# Altium integrated library CONNECTORS AND MODULES.IntLib: 31 symbols
Pins are listed as number, name and electrical type; pins without a type are passive.

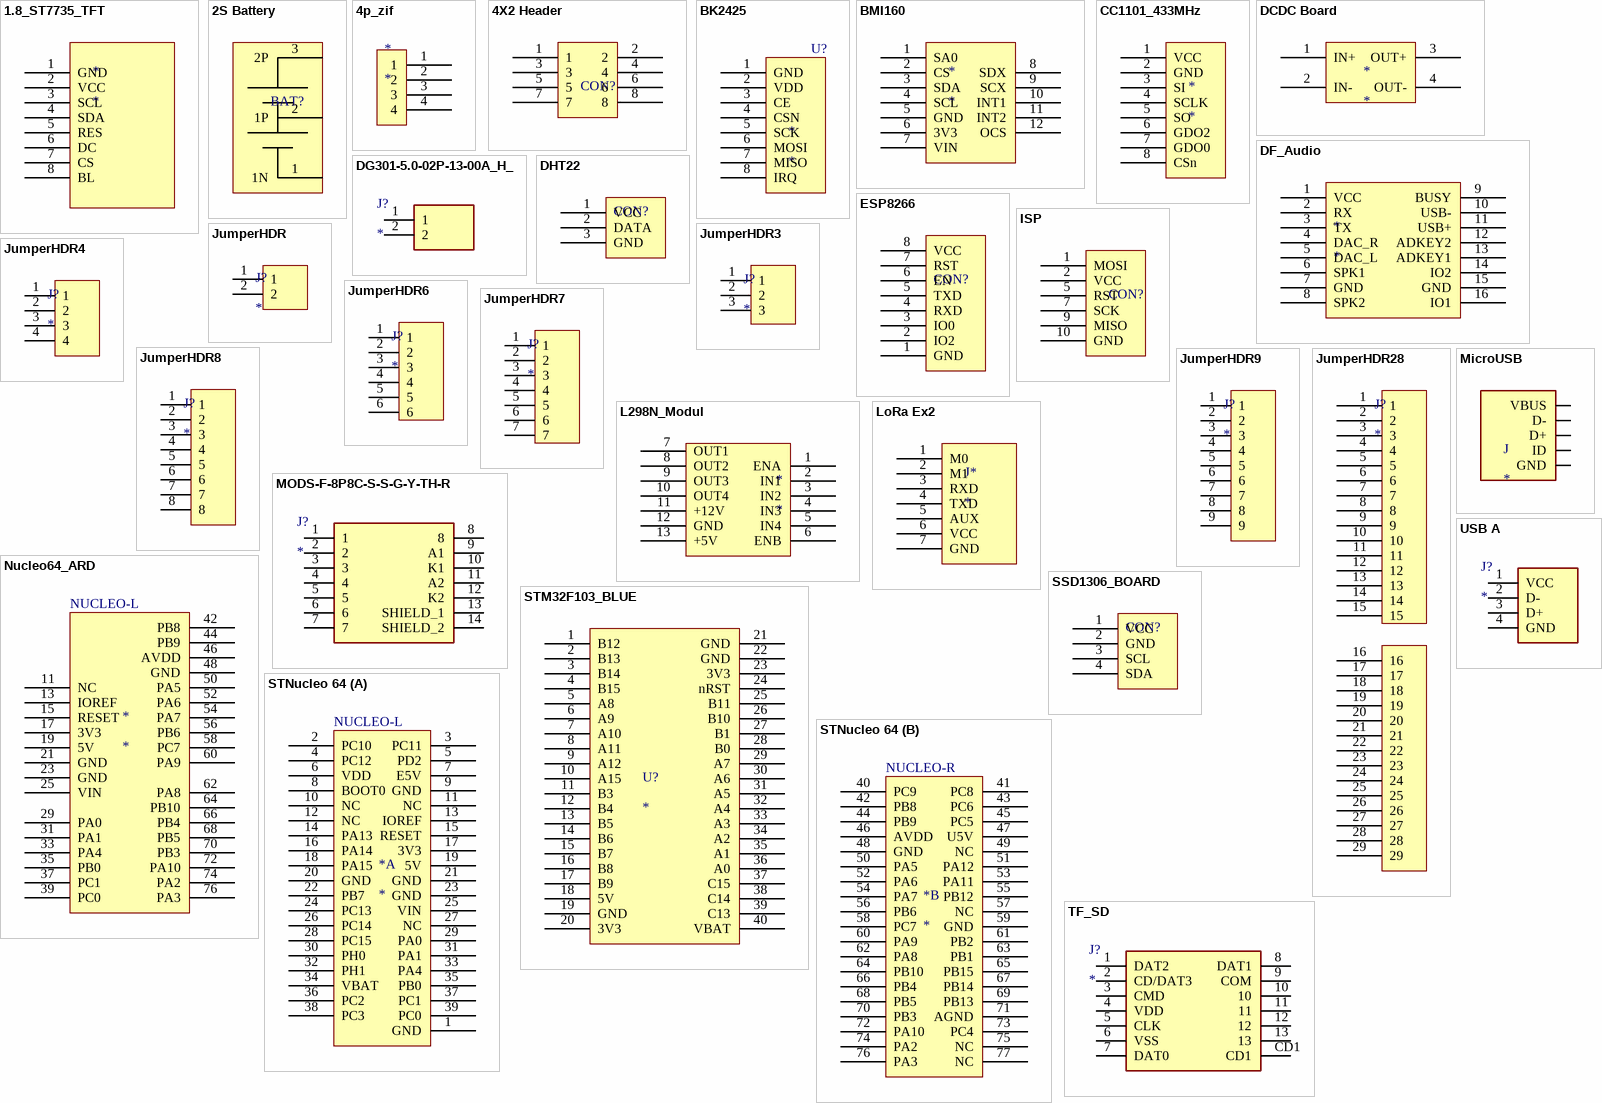
[diagram p0: symbols 1.8_ST7735_TFT to USB A]

## 1.8_ST7735_TFT
designator *
footprint 1.8_ST7735_TFT
pins: 1 GND, 2 VCC, 3 SCL, 4 SDA, 5 RES, 6 DC, 7 CS, 8 BL

## 2S Battery
designator BAT?
footprint Battery Connector
pins: 1 1N, 2 1P, 3 2P

## 4p_zif
designator *
footprint 4p_smd_zif
pins: 1, 2, 3, 4

## 4X2 Header
designator CON?
footprint 4x2
pins: 1, 2, 3, 4, 5, 6, 7, 8

## BK2425
designator *
footprint BK2425
pins: 1 GND, 2 VDD, 3 CE, 4 CSN, 5 SCK, 6 MOSI, 7 MISO, 8 IRQ
text: U?

## BMI160
designator *
footprint BMI160
pins: 1 SA0, 2 CS, 3 SDA, 4 SCL, 5 GND, 6 3V3, 7 VIN, 8 SDX, 9 SCX, 10 INT1, 11 INT2, 12 OCS

## CC1101_433MHz
designator *
footprint CC1101_433MHz
pins: 1 VCC, 2 GND, 3 SI, 4 SCLK, 5 SO, 6 GDO2, 7 GDO0, 8 CSn

## DCDC Board
designator *
footprint DC DC Board
pins: 1 IN+, 2 IN-, 3 OUT+, 4 OUT-

## DF_Audio
designator *
footprint DF_AUDIO
pins: 1 VCC, 2 RX, 3 TX, 4 DAC_R, 5 DAC_L, 6 SPK1, 7 GND, 8 SPK2, 9 BUSY, 10 USB-, 11 USB+, 12 ADKEY2, 13 ADKEY1, 14 IO2, 15 GND, 16 IO1

## DG301-5.0-02P-13-00A_H_
designator J?
Connector; Manufacturer_Name: Degson; Manufacturer_Part_Number: DG301-5.0-02P-13-00A(H); Height: 10.2mm
footprint DG3015002P1300AH
pins: 1, 2

## DHT22
designator CON?
footprint DHT22; pin to pad 3>4
pins: 1 VCC, 2 DATA, 3 GND

## ESP8266
designator CON?
footprint ESP8266
pins: 1 GND, 2 IO2, 3 IO0, 4 RXD, 5 TXD, 6 EN, 7 RST, 8 VCC

## ISP
designator CON?
footprint ISP; pin to pad 10>4
pins: 1 MOSI, 2 VCC, 5 RST, 7 SCK, 9 MISO, 10 GND

## JumperHDR
designator J?
footprint JumperHDR
pins: 1, 2

## JumperHDR3
designator J?
footprint JumperHDR3
pins: 1, 2, 3

## JumperHDR4
designator J?
footprint JumperHDR4
pins: 1, 2, 3, 4

## JumperHDR6
designator J?
footprint JumperHDR6
pins: 1, 2, 3, 4, 5, 6

## JumperHDR7
designator J?
footprint JumperHDR7
pins: 1, 2, 3, 4, 5, 6, 7

## JumperHDR8
designator J?
footprint JumperHDR8
pins: 1, 2, 3, 4, 5, 6, 7, 8

## JumperHDR9
designator J?
footprint JUMPERHDR9
pins: 1, 2, 3, 4, 5, 6, 7, 8, 9

## JumperHDR28
designator J?
footprint JUMPERHDR28
pins: 1, 2, 3, 4, 5, 6, 7, 8, 9, 10, 11, 12, 13, 14, 15, 16, 17, 18, 19, 20, 21, 22, 23, 24, 25, 26, 27, 28, 29

## L298N_Modul
designator *
footprint L298N_Modul
pins: 1 ENA, 2 IN1, 3 IN2, 4 IN3, 5 IN4, 6 ENB, 7 OUT1, 8 OUT2, 9 OUT3, 10 OUT4, 11 +12V, 12 GND, 13 +5V

## LoRa Ex2
designator J*
footprint LORA Ex2
pins: 1 M0, 2 M1, 3 RXD, 4 TXD, 5 AUX, 6 VCC, 7 GND

## MicroUSB
designator J
MP: ZX62-B-5PA; MF: Hirose; Value: *; Price: None; SnapEDA_Link: https://www.snapeda.com/parts/ZX62-B-5PA/Hirose%20Electric%20Co%20Ltd/view-part/134668/?ref=snap; Availability: Unavailable; Package: None
footprint MicroUSB
pins: 1 VBUS (power), 2 D-, 3 D+, 4 ID, 5 GND (power)

## MODS-F-8P8C-S-S-G-Y-TH-R
designator J?
Connector; Manufacturer_Name: SAMTEC; Manufacturer_Part_Number: MODS-F-8P8C-S-S-G-Y-TH-R; Datasheet Link: https://4donline.ihs.com/images/VipMasterIC/IC/SAMI/SAMIS10533/SAMIS10533-1.pdf?hkey=61A2E4C270F0397D049F8F05BD4F1054; Height: 13.88mm
footprint MODSF8P8CSSGYTHR
pins: 1, 2, 3, 4, 5, 6, 7, 8, 9 A1, 10 K1, 11 A2, 12 K2, 13 SHIELD_1, 14 SHIELD_2

## Nucleo64_ARD
designator *
footprint Nucleo64_Ard
pins: 11 NC, 13 IOREF, 15 RESET, 17 3V3, 19 5V, 21 GND, 23 GND, 25 VIN, 29 PA0, 31 PA1, 33 PA4, 35 PB0, 37 PC1, 39 PC0, 42 PB8, 44 PB9, 46 AVDD, 48 GND, 50 PA5, 52 PA6, 54 PA7, 56 PB6, 58 PC7, 60 PA9, 62 PA8, 64 PB10, 66 PB4, 68 PB5, 70 PB3, 72 PA10, 74 PA2, 76 PA3
text: NUCLEO-L

## SSD1306_BOARD
designator CON?
footprint SSD1306_PCB
pins: 1 VCC, 2 GND, 3 SCL, 4 SDA

## STM32F103_BLUE
designator U?
footprint STM32_BLUE_PILL
pins: 1 B12, 2 B13, 3 B14, 4 B15, 5 A8, 6 A9, 7 A10, 8 A11, 9 A12, 10 A15, 11 B3, 12 B4, 13 B5, 14 B6, 15 B7, 16 B8, 17 B9, 18 5V, 19 GND, 20 3V3, 21 GND, 22 GND, 23 3V3, 24 nRST, 25 B11, 26 B10, 27 B1, 28 B0, 29 A7, 30 A6, 31 A5, 32 A4, 33 A3, 34 A2, 35 A1, 36 A0, 37 C15, 38 C14, 39 C13, 40 VBAT

## STNucleo 64
designator *
footprint Nucleo64_FULL
footprint Nucleo64_MorphoOnly
part A pins: 1 GND, 2 PC10, 3 PC11, 4 PC12, 5 PD2, 6 VDD, 7 E5V, 8 BOOT0, 9 GND, 10 NC, 11 NC, 12 NC, 13 IOREF, 14 PA13, 15 RESET, 16 PA14, 17 3V3, 18 PA15, 19 5V, 20 GND, 21 GND, 22 PB7, 23 GND, 24 PC13, 25 VIN, 26 PC14, 27 NC, 28 PC15, 29 PA0, 30 PH0, 31 PA1, 32 PH1, 33 PA4, 34 VBAT, 35 PB0, 36 PC2, 37 PC1, 38 PC3, 39 PC0
part B pins: 40 PC9, 41 PC8, 42 PB8, 43 PC6, 44 PB9, 45 PC5, 46 AVDD, 47 U5V, 48 GND, 49 NC, 50 PA5, 51 PA12, 52 PA6, 53 PA11, 54 PA7, 55 PB12, 56 PB6, 57 NC, 58 PC7, 59 GND, 60 PA9, 61 PB2, 62 PA8, 63 PB1, 64 PB10, 65 PB15, 66 PB4, 67 PB14, 68 PB5, 69 PB13, 70 PB3, 71 AGND, 72 PA10, 73 PC4, 74 PA2, 75 NC, 76 PA3, 77 NC
part A text: NUCLEO-L
part B text: NUCLEO-R

## TF_SD
designator J?
Connector; Manufacturer_Name: AVX; Manufacturer_Part_Number: 045138008100858+; Datasheet Link: https://www.mouser.sg/datasheet/2/909/5138-1359342.pdf; Height: 1.4mm; Mouser Part Number: 581-045138008100858+; Mouser Price/Stock: https://www.mouser.com/Search/Refine.aspx?Keyword=581-045138008100858%2B; Arrow Part Number: 045138008100858+; Arrow Price/Stock: https://www.arrow.com/en/products/045138008100858/avx
footprint TF_SD
pins: 1 DAT2, 2 CD/DAT3, 3 CMD, 4 VDD, 5 CLK, 6 VSS, 7 DAT0, 8 DAT1, 9 COM, 10, 11, 12, 13, CD1

## USB A
designator J?
Connector; Manufacturer_Name: Wurth Elektronik; Manufacturer_Part_Number: 629004113921; Datasheet Link: http://katalog.we-online.de/em/datasheet/629004113921.pdf; Mouser Part Number: 710-629004113921; Mouser Price/Stock: https://www.mouser.co.uk/ProductDetail/Wurth-Elektronik/629004113921?qs=35zkduByVmhHRkVkRjAlEQ%3D%3D
footprint 629004113921 - duplicate
pins: 1 VCC, 2 D-, 3 D+, 4 GND